# EAGLE library part DIN8 (library din)
Din 8 Socket
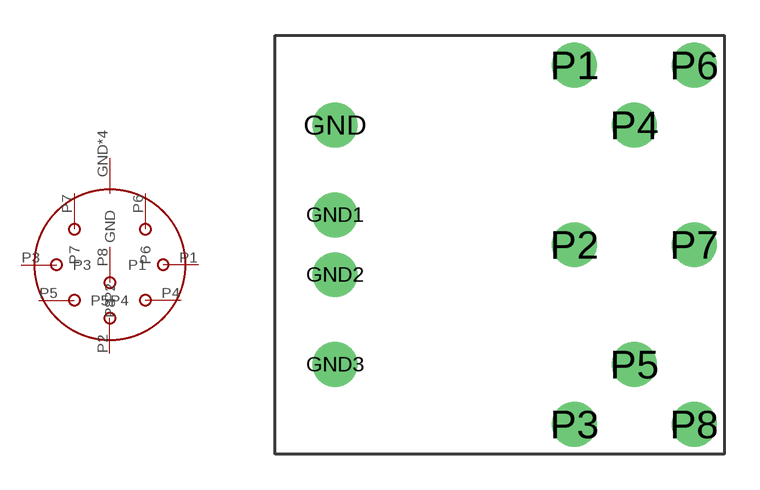
[diagram p0: symbol with the pads of DIN8; footprint DIN8]

Designator prefix -

## DIN8  [DIN8]
GND  GND
GND1  GND
GND2  GND
GND3  GND
P1  P1
P2  P2
P3  P3
P4  P4
P5  P5
P6  P6
P7  P7
P8  P8

## Footprint DIN8 (pad centres in mm)
drill 1.27: GND -7.62,5.08; GND1 -7.62,1.27; GND2 -7.62,-1.27; GND3 -7.62,-5.08; P1 2.54,7.62; P2 2.54,0; P3 2.54,-7.62; P4 5.08,5.08; P5 5.08,-5.08; P6 7.62,7.62; P7 7.62,0; P8 7.62,-7.62